# Altium schematic symbol library GENERIC_NPN_CBE.Schlib: 1 symbol
Pins are listed as number, name and electrical type; pins without a type are passive.

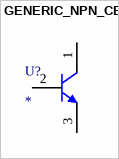
[diagram p0: symbol GENERIC_NPN_CBE]

## GENERIC_NPN_CBE
designator U?
pins: 1 C, 2 B, 3 E